# Altium footprint library DANCE_LIB_REV2.PcbLib: 146 footprints (part 4 of 10)
Each footprint in its own frame and in the unit in brackets; x right, y up, seen from the top. Pads: shape width x height; smd on the part's side, far side on the other; paste and mask are expansions set on the pad; w line width, h text height; cw(c..) or ccw(c..) is an arc to the next point about the centre after c.
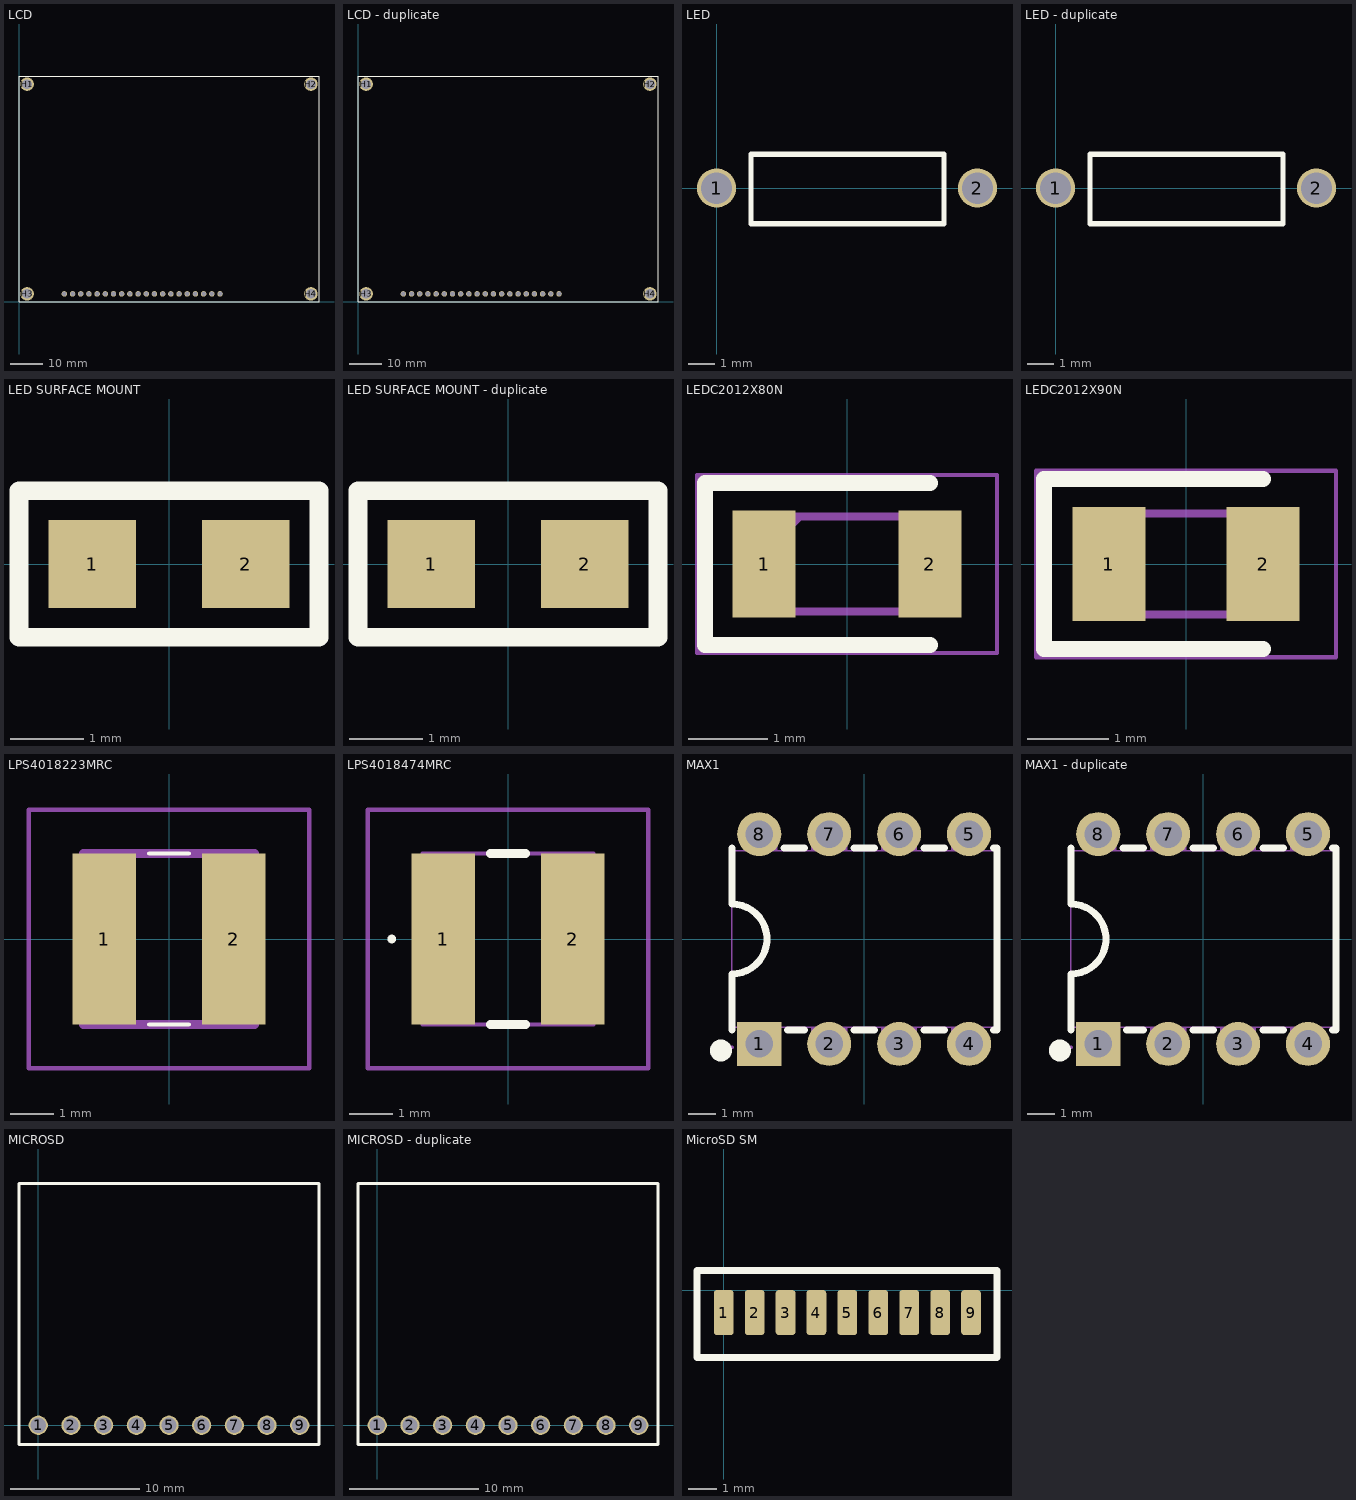
[diagram p3: the footprints below, top view; thin cyan lines are the x and y axes]

## LCD [mm]
pads (24):
  round 1.7 hole 1.4: 1(62.315,2.485) 2(59.775,2.485) 3(57.235,2.485) 4(54.695,2.485) 5(52.155,2.485) 6(49.615,2.485) 7(47.075,2.485) 8(44.535,2.485) 9(41.995,2.485) 10(39.455,2.485) 11(36.915,2.485) 12(34.375,2.485) 13(31.835,2.485) 14(29.295,2.485) 15(26.755,2.485) 16(24.215,2.485) 17(21.675,2.485) 18(19.135,2.485) 19(16.595,2.485) 20(14.055,2.485)
  round 4.2 hole 3: H1(2.5,67.5) H2(90.5,67.5) H3(2.5,2.5) H4(90.5,2.5)
Top Overlay:
  circle w0.254: c90.5,67.5 r1.5
  circle w0.254: c90.5,2.5 r1.5
  circle w0.254: c2.5,67.5 r1.5
  circle w0.254: c2.5,2.5 r1.5
  lines w0.254: 0,2.5 0,0 ; 14.04,0 0,0 ; 14.04,2.5 14.055,2.485 ; 0,0 93,0 93,70 0,70 0,0

## LCD - duplicate [mm]
pads (24):
  round 1.7 hole 1.4: 1(62.315,2.485) 2(59.775,2.485) 3(57.235,2.485) 4(54.695,2.485) 5(52.155,2.485) 6(49.615,2.485) 7(47.075,2.485) 8(44.535,2.485) 9(41.995,2.485) 10(39.455,2.485) 11(36.915,2.485) 12(34.375,2.485) 13(31.835,2.485) 14(29.295,2.485) 15(26.755,2.485) 16(24.215,2.485) 17(21.675,2.485) 18(19.135,2.485) 19(16.595,2.485) 20(14.055,2.485)
  round 4.2 hole 3: H1(2.5,67.5) H2(90.5,67.5) H3(2.5,2.5) H4(90.5,2.5)
Top Overlay:
  circle w0.254: c90.5,67.5 r1.5
  circle w0.254: c90.5,2.5 r1.5
  circle w0.254: c2.5,67.5 r1.5
  circle w0.254: c2.5,2.5 r1.5
  lines w0.254: 0,2.5 0,0 ; 14.04,0 0,0 ; 14.04,2.5 14.055,2.485 ; 0,0 93,0 93,70 0,70 0,0

## LED [mm]
pads (2):
  round 1.5 hole 1.2: 1(0,0) 2(10,0)
Top Overlay:
  lines w0.2: 1.325,-1.367 1.325,1.3 8.716,1.3 8.716,-1.367 1.325,-1.367

## LED - duplicate [mm]
pads (2):
  round 1.5 hole 1.2: 1(0,0) 2(10,0)
Top Overlay:
  lines w0.2: 1.325,-1.367 1.325,1.3 8.716,1.3 8.716,-1.367 1.325,-1.367

## LED SURFACE MOUNT [mm]
pads (2):
  rect 1.2x1.2 smd: 1(-1.05,0) 2(1.05,0)
Top Overlay:
  lines w0.254: -2.05,-1 -2.05,1 2.05,1 2.05,-1 -2.05,-1

## LED SURFACE MOUNT - duplicate [mm]
pads (2):
  rect 1.2x1.2 smd: 1(-1.05,0) 2(1.05,0)
Top Overlay:
  lines w0.254: -2.05,-1 2.05,-1 2.05,1 -2.05,1 -2.05,-1

## LEDC2012X80N [mm]
pads (2):
  rect 0.8x1.35 smd: 1(-1.05,0) 2(1.05,0)
Top Overlay:
  lines w0.2: 1.05,-1.025 -1.8,-1.025 -1.8,1.025 1.05,1.025
Mechanical 13:
  lines w0.1: -1,0.2 -0.6,0.6 ; -1,-0.6 -1,0.6 1,0.6 1,-0.6 -1,-0.6
Mechanical 15:
  lines w0.05: -1.9,-1.125 -1.9,1.125 1.9,1.125 1.9,-1.125 -1.9,-1.125
3D body "SM0805HC.stp": height 0.87, standoff -0.02, extent -0.943,-0.562 1.063,0.682

## LEDC2012X90N [mm]
pads (2):
  rect 0.9x1.4 smd: 1(-0.95,0) 2(0.95,0)
Top Overlay:
  lines w0.2: 0.95,-1.05 -1.75,-1.05 -1.75,1.05 0.95,1.05
Mechanical 13:
  lines w0.1: -1,0.208 -0.583,0.625 ; -1,-0.625 1,-0.625 1,0.625 -1,0.625 -1,-0.625
Mechanical 15:
  lines w0.05: -1.85,-1.15 1.85,-1.15 1.85,1.15 -1.85,1.15 -1.85,-1.15

## LPS4018223MRC [mm]
pads (2):
  rect 1.45x3.89 smd: 1(-1.475,0) 2(1.475,0)
Top Overlay:
  lines w0.1: -0.45,-1.95 0.45,-1.95 ; -0.45,1.95 0.45,1.95
Mechanical 13:
  lines w0.2: -1.95,-1.95 -1.95,1.95 1.95,1.95 1.95,-1.95 -1.95,-1.95
Mechanical 15:
  lines w0.1: -3.2,-2.95 -3.2,2.95 3.2,2.95 3.2,-2.95 -3.2,-2.95
3D body "LPS4018-223MRC.stp": height 1.73, standoff 0, extent -1.95,-1.95 1.95,1.95

## LPS4018474MRC [mm]
pads (2):
  rect 1.45x3.89 smd: 1(-1.475,0) 2(1.475,0)
Top Overlay:
  lines w0.1: -2.7,0 cw(c-2.65,0) -2.6,0 cw(c-2.65,0) -2.7,0
  lines w0.2: -0.4,-1.95 0.4,-1.95 ; -0.4,1.95 0.4,1.95
Mechanical 13:
  lines w0.1: -1.95,-1.95 1.95,-1.95 1.95,1.95 -1.95,1.95 -1.95,-1.95
Mechanical 15:
  lines w0.1: -3.2,-2.95 3.2,-2.95 3.2,2.95 -3.2,2.95 -3.2,-2.95
3D body "LPS4018-474MRC.stp": height 1.9, standoff 0, extent -2.055,-1.95 2.055,1.95

## M3_MOUNTING_HOLE_3_4_mm [mm]
via 0,0 diameter 3.734 hole 3.429

## MAX1 [mil]
pads (8):
  rect 63x63 hole 39.37: 1(-150,-150)
  round 63 hole 39.37: 2(-50,-150) 3(50,-150) 4(150,-150) 5(150,150) 6(50,150) 7(-50,150) 8(-150,150)
Top Overlay:
  circle w15.75: c-204.72,-159.45 r7.87
  lines w10: -188.98,-130 -188.98,-100 -188.98,-50 ccw(c-188.98,0) -188.98,50 -188.98,100 -188.98,130 ; -114.69,130 -85.32,130 ; -109.4,-130 -85.32,-130 ; -14.69,-130 14.68,-130 ; -14.69,130 14.68,130 ; 85.31,-130 114.68,-130 ; 85.31,130 114.68,130 ; 185.31,-130 190,-130 190,130 185.31,130
Mechanical 6:
  circle w15.75: c-165.35,-165.35 r7.87
Mechanical 15:
  region: -124.41,154.53 -124.41,125.79 -159.06,125.79 -159.06,154.92
  region: -159.06,154.92 -138.78,154.92 -138.78,143.5 -159.06,143.5 -159.06,143.74
  region: 159.05,-154.92 138.78,-154.92 138.78,-143.5 159.05,-143.5 159.05,-143.74
  region: 124.41,-154.53 124.41,-125.79 159.05,-125.79 159.05,-154.92
  region: 75.59,-154.92 24.41,-154.92 24.41,-125.79 75.59,-125.79 75.59,-126.02
  region: 34.78,-143.11 34.78,-154.92 65.22,-154.92 65.22,-143.11
  region: -34.78,143.11 -34.78,154.92 -65.22,154.92 -65.22,143.11
  region: -75.59,154.92 -24.41,154.92 -24.41,125.79 -75.59,125.79 -75.59,126.02
  region: 75.59,154.92 24.41,154.92 24.41,125.79 75.59,125.79 75.59,126.02
  region: 34.78,143.11 34.78,154.92 65.22,154.92 65.22,143.11
  region: -34.78,-143.11 -34.78,-154.92 -65.22,-154.92 -65.22,-143.11
  region: -75.59,-154.92 -24.41,-154.92 -24.41,-125.79 -75.59,-125.79 -75.59,-126.02
  region: -124.41,-154.53 -124.41,-125.79 -159.06,-125.79 -159.06,-154.92
  region: -159.06,-154.92 -138.78,-154.92 -138.78,-143.5 -159.06,-143.5 -159.06,-143.74
  region: 159.06,154.92 138.78,154.92 138.78,143.5 159.06,143.5 159.06,143.74
  region: 124.41,154.53 124.41,125.79 159.06,125.79 159.06,154.92
  region: -186.61,-154.92 -186.61,-153.94 -188,-152.56 -189.95,-152.56 -191.34,-153.94 -191.34,-154.92 -191.34,-155.9 -189.95,-157.28 -188,-157.28 -186.61,-155.9
  lines w2: -188.98,-125.98 188.98,-125.98 188.98,125.98 -188.98,125.98 -188.98,-125.98

## MAX1 - duplicate [mil]
pads (8):
  rect 63x63 hole 39.37: 1(-150,-150)
  round 63 hole 39.37: 2(-50,-150) 3(50,-150) 4(150,-150) 5(150,150) 6(50,150) 7(-50,150) 8(-150,150)
Top Overlay:
  circle w15.75: c-204.72,-159.45 r7.87
  lines w10: -188.98,-130 -188.98,-100 -188.98,-50 ccw(c-188.98,0) -188.98,50 -188.98,100 -188.98,130 ; -114.69,130 -85.32,130 ; -109.4,-130 -85.32,-130 ; -14.69,-130 14.68,-130 ; -14.69,130 14.68,130 ; 85.31,-130 114.68,-130 ; 85.31,130 114.68,130 ; 185.31,-130 190,-130 190,130 185.31,130
Mechanical 6:
  circle w15.75: c-165.35,-165.35 r7.87
Mechanical 15:
  region: -186.61,-154.92 -186.61,-153.94 -188,-152.56 -189.95,-152.56 -191.34,-153.94 -191.34,-154.92 -191.34,-155.9 -189.95,-157.28 -188,-157.28 -186.61,-155.9
  region: 124.41,154.53 124.41,125.79 159.06,125.79 159.06,154.92
  region: 159.06,154.92 138.78,154.92 138.78,143.5 159.06,143.5 159.06,143.74
  region: -159.06,-154.92 -138.78,-154.92 -138.78,-143.5 -159.06,-143.5 -159.06,-143.74
  region: -124.41,-154.53 -124.41,-125.79 -159.06,-125.79 -159.06,-154.92
  region: -75.59,-154.92 -24.41,-154.92 -24.41,-125.79 -75.59,-125.79 -75.59,-126.02
  region: -34.78,-143.11 -34.78,-154.92 -65.22,-154.92 -65.22,-143.11
  region: 34.78,143.11 34.78,154.92 65.22,154.92 65.22,143.11
  region: 75.59,154.92 24.41,154.92 24.41,125.79 75.59,125.79 75.59,126.02
  region: -75.59,154.92 -24.41,154.92 -24.41,125.79 -75.59,125.79 -75.59,126.02
  region: -34.78,143.11 -34.78,154.92 -65.22,154.92 -65.22,143.11
  region: 34.78,-143.11 34.78,-154.92 65.22,-154.92 65.22,-143.11
  region: 75.59,-154.92 24.41,-154.92 24.41,-125.79 75.59,-125.79 75.59,-126.02
  region: 124.41,-154.53 124.41,-125.79 159.05,-125.79 159.05,-154.92
  region: 159.05,-154.92 138.78,-154.92 138.78,-143.5 159.05,-143.5 159.05,-143.74
  region: -159.06,154.92 -138.78,154.92 -138.78,143.5 -159.06,143.5 -159.06,143.74
  region: -124.41,154.53 -124.41,125.79 -159.06,125.79 -159.06,154.92
  lines w2: -188.98,-125.98 -188.98,125.98 188.98,125.98 188.98,-125.98 -188.98,-125.98

## MICROSD [mm]
pads (9):
  round 1.5 hole 1.2: 1(0,0) 2(2.54,0) 3(5.08,0) 4(7.62,0) 5(10.16,0) 6(12.7,0) 7(15.24,0) 8(17.78,0) 9(20.32,0)
Top Overlay:
  lines w0.254: -1.5,-1.5 -1.5,18.8 21.82,18.8 21.82,-1.5 -1.5,-1.5

## MICROSD - duplicate [mm]
pads (9):
  round 1.5 hole 1.2: 1(0,0) 2(2.54,0) 3(5.08,0) 4(7.62,0) 5(10.16,0) 6(12.7,0) 7(15.24,0) 8(17.78,0) 9(20.32,0)
Top Overlay:
  lines w0.254: -1.5,-1.5 -1.5,18.8 21.82,18.8 21.82,-1.5 -1.5,-1.5

## MicroSD SM [mm]
pads (9):
  rrect30% 0.7x1.6 smd: 1(0,-0.8) 2(1.1,-0.8) 3(2.2,-0.8) 4(3.3,-0.8) 5(4.4,-0.8) 6(5.5,-0.8) 7(6.6,-0.8) 8(7.7,-0.8) 9(8.8,-0.8)
Top Overlay:
  lines w0.254: -0.95,-2.4 -0.95,0.7 9.725,0.7 9.725,-2.4 -0.95,-2.4